# Altium schematic symbol library Resistors.SchLib: 11 symbols
Pins are listed as number, name and electrical type; pins without a type are passive.

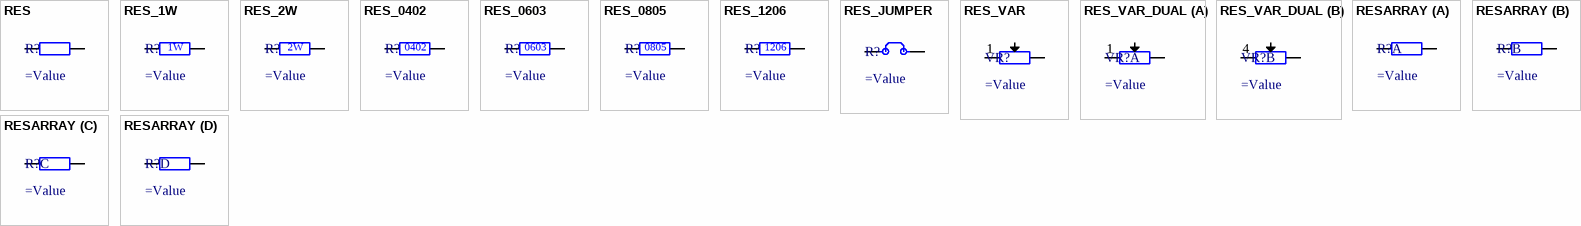
[diagram p0: symbols RES to RESARRAY]

## RES
designator R?
Resistor
pins: 1, 2

## RES_1W
designator R?
Res. 1W
pins: 1, 2
text: 1W

## RES_2W
designator R?
Res. 2W
pins: 1, 2
text: 2W

## RES_0402
designator R?
Res. 0402
pins: 1, 2
text: 0402

## RES_0603
designator R?
Res. 0603
pins: 1, 2
text: 0603

## RES_0805
designator R?
Res. 0805
pins: 1, 2
text: 0805

## RES_1206
designator R?
Res. 1206
pins: 1, 2
text: 1206

## RES_JUMPER
designator R?
THT Resistor Jumper
pins: 1, 2

## RES_VAR
designator VR?
Potentiometer
pins: 1, 2, 3

## RES_VAR_DUAL
designator VR?
Potentiometer
part A pins: 1, 2, 3
part B pins: 4, 5, 6

## RESARRAY
designator R?
Res. Array
part A pins: 1, 2
part B pins: 3, 4
part C pins: 5, 6
part D pins: 7, 8